# EAGLE library part ELM327?(V2.1) (library Elm Electronics)
ELM327 - OBD to RS232 Interpreter (v2.1) based on Microchip Technology Inc.'s PIC18F2480 (www.microchip.com) All versions of the ELM327 support the standard OBDII protocols. In addition, the IC supports various other protocols to varying degrees. Version 2.1 is the most recent revision. More info on Elm Electronics Inc. <www.elmelectronics.com>.
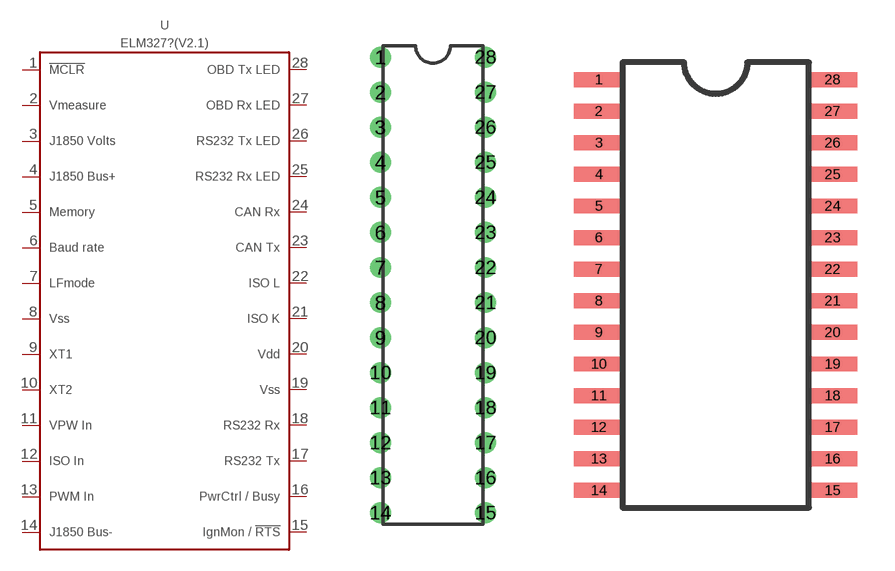
[diagram p0: symbol with the pads of SPDIP(28); footprints SPDIP(28), SOIC(28)]

Designator prefix U

## ELM327P(V2.1)  [SPDIP(28)]
1  !MCLR
2  VMEASURE
3  J1850_VOLTS
4  J1850_BUS+
5  MEMORY
6  BAUD_RATE
7  LFMODE
8  VSS
9  XT1
10  XT2
11  VPW_IN
12  ISO_IN
13  PWM_IN
14  J1850_BUS-
15  IGNMON/!RTS
16  PWRCTRL/BUSY
17  RS232_TX
18  RS232_RX
19  VSS
20  VDD
21  ISO_K
22  ISO_L
23  CAN_TX
24  CAN_RX
25  RS232_RX_LED
26  RS232_TX_LED
27  OBD_RX_LED
28  OBD_TX_LED

## ELM327SM(V2.1)  [SOIC(28)]
Pads as for SPDIP(28)

## Footprint SPDIP(28) (pad centres in mm)
28-Lead Skinny Plastic Dual In-Line (SP) - 300 mil Body [SPDIP]
drill 1 pad 1.5: 1 -3.81,16.51; 2 -3.81,13.97; 3 -3.81,11.43; 4 -3.81,8.89; 5 -3.81,6.35; 6 -3.81,3.81; 7 -3.81,1.27; 8 -3.81,-1.27; 9 -3.81,-3.81; 10 -3.81,-6.35; 11 -3.81,-8.89; 12 -3.81,-11.43; 13 -3.81,-13.97; 14 -3.81,-16.51; 15 3.81,-16.51; 16 3.81,-13.97; 17 3.81,-11.43; 18 3.81,-8.89; 19 3.81,-6.35; 20 3.81,-3.81; 21 3.81,-1.27; 22 3.81,1.27; 23 3.81,3.81; 24 3.81,6.35; 25 3.81,8.89; 26 3.81,11.43; 27 3.81,13.97; 28 3.81,16.51

## Footprint SOIC(28) (pad centres in mm)
28-Lead Plastic Small Outline (SO) - Wide, 7.50 mm Body [SOIC]
smd 2 x 0.6: 1 -4.7,8.255; 2 -4.7,6.985; 3 -4.7,5.715; 4 -4.7,4.445; 5 -4.7,3.175; 6 -4.7,1.905; 7 -4.7,0.635; 8 -4.7,-0.635; 9 -4.7,-1.905; 10 -4.7,-3.175; 11 -4.7,-4.445; 12 -4.7,-5.715; 13 -4.7,-6.985; 14 -4.7,-8.255; 15 4.7,-8.255; 16 4.7,-6.985; 17 4.7,-5.715; 18 4.7,-4.445; 19 4.7,-3.175; 20 4.7,-1.905; 21 4.7,-0.635; 22 4.7,0.635; 23 4.7,1.905; 24 4.7,3.175; 25 4.7,4.445; 26 4.7,5.715; 27 4.7,6.985; 28 4.7,8.255